# Altium schematic symbol library lattice.SchLib: 1 symbol
Pins are listed as number, name and electrical type; pins without a type are passive.

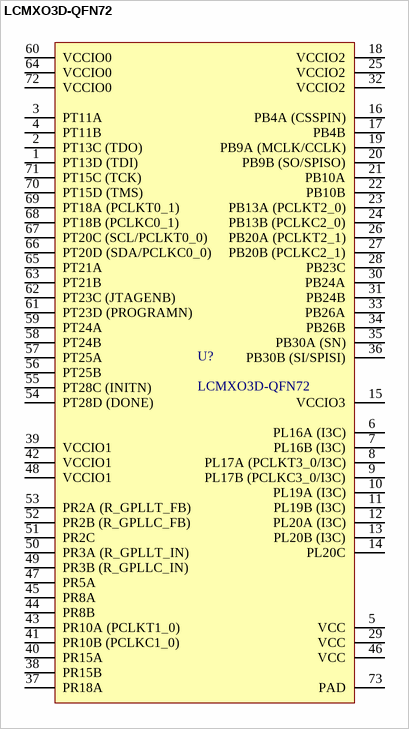
[diagram p0: symbol LCMXO3D-QFN72]

## LCMXO3D-QFN72
designator U?
footprint MachXO3D-QFN72 (QFN, 72-Leads, Body 10,00x10,00mm, Pitch 0,50mm, Thermal Pad 7,18x7,18mm, IPC Medium Density)
pins: 1 PT13D (TDI), 2 PT13C (TDO), 3 PT11A, 4 PT11B, 5 VCC, 6 PL16A (I3C), 7 PL16B (I3C), 8 PL17A (PCLKT3_0/I3C), 9 PL17B (PCLKC3_0/I3C), 10 PL19A (I3C), 11 PL19B (I3C), 12 PL20A (I3C), 13 PL20B (I3C), 14 PL20C, 15 VCCIO3, 16 PB4A (CSSPIN), 17 PB4B, 18 VCCIO2, 19 PB9A (MCLK/CCLK), 20 PB9B (SO/SPISO), 21 PB10A, 22 PB10B, 23 PB13A (PCLKT2_0), 24 PB13B (PCLKC2_0), 25 VCCIO2, 26 PB20A (PCLKT2_1), 27 PB20B (PCLKC2_1), 28 PB23C, 29 VCC, 30 PB24A, 31 PB24B, 32 VCCIO2, 33 PB26A, 34 PB26B, 35 PB30A (SN), 36 PB30B (SI/SPISI), 37 PR18A, 38 PR15B, 39 VCCIO1, 40 PR15A, 41 PR10B (PCLKC1_0), 42 VCCIO1, 43 PR10A (PCLKT1_0), 44 PR8B, 45 PR8A, 46 VCC, 47 PR5A, 48 VCCIO1, 49 PR3B (R_GPLLC_IN), 50 PR3A (R_GPLLT_IN), 51 PR2C, 52 PR2B (R_GPLLC_FB), 53 PR2A (R_GPLLT_FB), 54 PT28D (DONE), 55 PT28C (INITN), 56 PT25B, 57 PT25A, 58 PT24B, 59 PT24A, 60 VCCIO0, 61 PT23D (PROGRAMN), 62 PT23C (JTAGENB), 63 PT21B, 64 VCCIO0, 65 PT21A, 66 PT20D (SDA/PCLKC0_0), 67 PT20C (SCL/PCLKT0_0), 68 PT18B (PCLKC0_1), 69 PT18A (PCLKT0_1), 70 PT15D (TMS), 71 PT15C (TCK), 72 VCCIO0, 73 PAD